# EAGLE library part 2061-623/998-404 (library con-wago_2061)
Serie 2061, SMD-Leiterplattenklemme mit Betätigungsdrückern im Gurt / Series 2061, SMD terminal block with push-buttons in tape-and-reel packing Polzahl / Pole No.: 3 Rastermaß / Pitch: 6 mm Bemessungsspannung / Rated Voltage: 320 V Nennstrom / Nominal Current: 17.5 A Leiterquerschnitt / Conductor Size: 0.5 - 1.5 mm2 Anschlusstechnik / Connection Technology: Push-in CAGE CLAMP® Leitereinführung (zur Platine) / Conductor entry angle (to PCB): 0 ° Farbe / Color: schwarz / black Stand: 01.01.2015. Die jeweils aktuellen Daten zu diesem Artikel finden Sie in unserem Produktkatalog, den Sie unter www.wago.com einsehen können. As of: 01/01/2015. Please find the newest data for this article in our product catalogue, which can be viewed under www.wago.com.
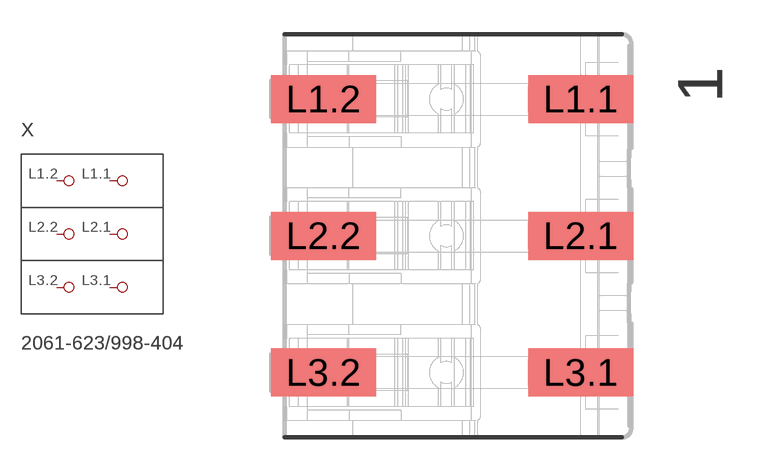
[diagram p1: symbol with the pads of P-2061-623/998-404; footprint P-2061-623/998-404]

Designator prefix X

## 2061-623/998-404  [P-2061-623/998-404]
L1.1  P1.1
L1.2  P1.2
L2.1  P2.1
L2.2  P2.2
L3.1  P3.1
L3.2  P3.2

## Footprint P-2061-623/998-404 (pad centres in mm)
smd 4.6 x 2.1: L1.1 5.69,6; L1.2 -5.6,6; L2.1 5.69,0; L2.2 -5.6,0; L3.1 5.69,-6; L3.2 -5.6,-6